# Altium schematic symbol library RPlan_LB.SchLib: 5 symbols
Pins are listed as number, name and electrical type; pins without a type are passive.

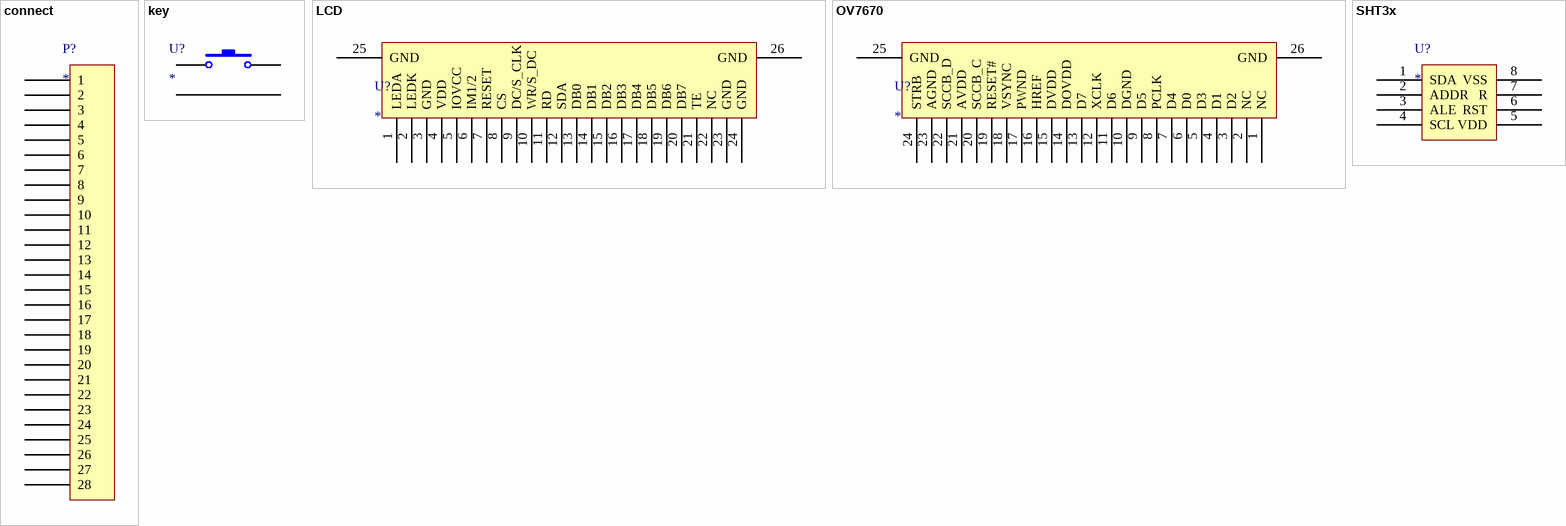
[diagram p0: symbols connect to SHT3x]

## connect
designator P?
pins: 1, 2, 3, 4, 5, 6, 7, 8, 9, 10, 11, 12, 13, 14, 15, 16, 17, 18, 19, 20, 21, 22, 23, 24, 25, 26, 27, 28

## key
designator U?
pins: 1, 2, 3, 4

## LCD
designator U?
pins: 1 LEDA, 2 LEDK, 3 GND, 4 VDD, 5 IOVCC, 6 IM1/2, 7 RESET, 8 CS, 9 DC/S_CLK, 10 WR/S_DC, 11 RD, 12 SDA, 13 DB0, 14 DB1, 15 DB2, 16 DB3, 17 DB4, 18 DB5, 19 DB6, 20 DB7, 21 TE, 22 NC, 23 GND, 24 GND, 25 GND, 26 GND

## OV7670
designator U?
pins: 1 NC, 2 NC, 3 D2, 4 D1, 5 D3, 6 D0, 7 D4, 8 PCLK, 9 D5, 10 DGND, 11 D6, 12 XCLK, 13 D7, 14 DOVDD, 15 DVDD, 16 HREF, 17 PWND, 18 VSYNC, 19 RESET#, 20 SCCB_C, 21 AVDD, 22 SCCB_D, 23 AGND, 24 STRB, 25 GND, 26 GND

## SHT3x
designator U?
pins: 1 SDA, 2 ADDR, 3 ALE, 4 SCL, 5 VDD, 6 RST, 7 R, 8 VSS